# Altium schematic symbol library GetRektified.SchLib: 15 symbols
Pins are listed as number, name and electrical type; pins without a type are passive.

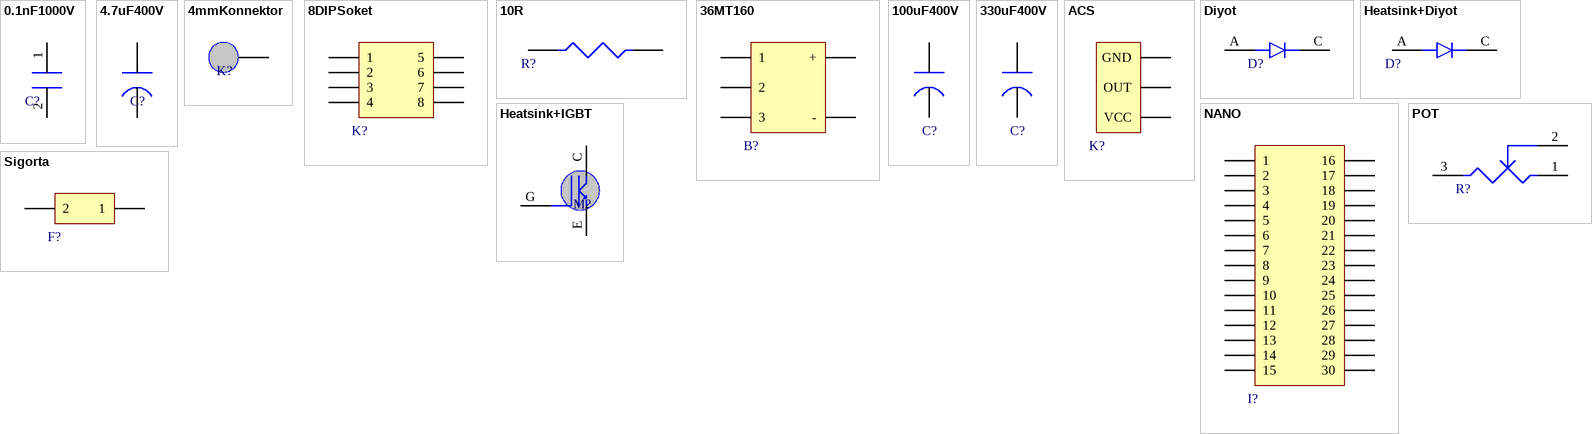
[diagram p0: symbols 0.1nF1000V to Sigorta]

## 0.1nF1000V
designator C?, comment C?
footprint 0.1nf1000V (C?)
pins: 1, 2

## 4.7uF400V
designator C?, comment C?
footprint 4.7uF400V (C?)
pins: 1, 2

## 4mmKonnektor
designator K?, comment K?
footprint 4mm Konnektor (K?)
pins: 1

## 8DIPSoket
designator K?, comment K?
footprint 8DIP (K?)
pins: 1, 2, 3, 4, 5, 6, 7, 8

## 10R
designator R?, comment R?
footprint 10R (R?)
pins: 1, 2

## 36MT160
designator B?, comment B?
footprint 36mt160
pins: 1, 2, 3, +, -

## 100uF400V
designator C?, comment C?
footprint 100uF400V (C?)
pins: 1, 2

## 330uF400V
designator C?, comment C?
footprint 330uF400V (C?)
pins: 1, 2

## ACS
designator K?, comment K?
footprint ACS (K?)
pins: GND, OUT, VCC

## Diyot
designator D?, comment D?
footprint Diode-DIP (D?)
pins: A, C 31

## Heatsink+Diyot
designator D?, comment D?
footprint Heatsınk+Dıyot (D?)
pins: A, C 31

## Heatsink+IGBT
designator M?, comment M?
footprint Heatsink+IGBT (M?)
pins: C, E, G

## NANO
designator I?, comment I?
footprint Nano (K?)
pins: 1, 2, 3, 4, 5, 6, 7, 8, 9, 10, 11, 12, 13, 14, 15, 16, 17, 18, 19, 20, 21, 22, 23, 24, 25, 26, 27, 28, 29, 30

## POT
designator R?, comment R?
footprint POT (R?)
pins: 1, 2, 3

## Sigorta
designator F?, comment F?
footprint Sıgorta (F?)
pins: 1, 2